# Altium schematic symbol library JST.SchLib: 2 symbols
Pins are listed as number, name and electrical type; pins without a type are passive.

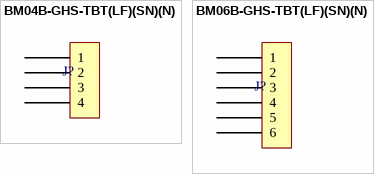
[diagram p0: symbols BM04B-GHS-TBT(LF)(SN)(N) to BM06B-GHS-TBT(LF)(SN)(N)]

## BM04B-GHS-TBT(LF)(SN)(N)
designator J?  (value not drawn)
CONN HEADER GH TOP 4POS 1.25MM; Manufacturer: JST Sales America Inc.; Manufacturer Part Number: BM04B-GHS-TBT(LF)(SN)(N); Connector Type: Header, Shrouded; Number of Positions: 4; Number of Positions Loaded: All; Pitch: 0.049" (1.25mm); Supplier 1: Digi-Key; Supplier Part Number 1: 455-1580-1-ND; RoHS: RoHS Compliant; Category: Connectors, Interconnects; Stock 1: 26095; Pricing 1: 1=0.44, 10=0.413, 100=0.3163, 500=0.27502, 1000=0.22689 (USD); Packaging: Cut Tape (CT); Contact Type: Outer Shroud Contact; Number of Rows: 1; Row Spacing: -; Contact Mating Length: -; Mounting Type: Surface Mount; Termination: Solder; Fastening Type: Locking Ramp; Features: Solder Retention; Contact Finish: Tin; Contact Finish Thickness: -; Color: Natural; ComponentLink1URL: http://www.jst-mfg.com/product/pdf/eng/eGH.pdf; ComponentLink1Description: http://www.jst-mfg.com/product/pdf/eng/eGH.pdf
footprint BM04B-GHS-TBT (Vertical)
pins: 1, 2, 3, 4

## BM06B-GHS-TBT(LF)(SN)(N)
designator J?
CONN HEADER GH TOP 6POS 1.25MM; Manufacturer: JST Sales America Inc.; Manufacturer Part Number: BM06B-GHS-TBT(LF)(SN)(N); Connector Type: Header, Shrouded; Number of Positions: 6; Number of Positions Loaded: All; Pitch: 0.049" (1.25mm); Supplier 1: Digi-Key; Supplier Part Number 1: 455-1582-1-ND; RoHS: RoHS Compliant; Category: Connectors, Interconnects; Stock 1: 150348; Pricing 1: 1=0.56, 10=0.524, 100=0.4019, 500=0.34948, 1000=0.28832 (USD); Packaging: Cut Tape (CT); Contact Type: Outer Shroud Contact; Number of Rows: 1; Row Spacing: -; Contact Mating Length: -; Mounting Type: Surface Mount; Termination: Solder; Fastening Type: Locking Ramp; Features: Solder Retention; Contact Finish: Tin; Contact Finish Thickness: -; Color: Natural; ComponentLink1URL: http://www.jst-mfg.com/product/pdf/eng/eGH.pdf; ComponentLink1Description: http://www.jst-mfg.com/product/pdf/eng/eGH.pdf
footprint BM06B-GHS-TBT (Vertical)
pins: 1, 2, 3, 4, 5, 6